# Altium footprint library SOT - SmallOutlineTransistor.PcbLib: 22 footprints (part 1 of 2)
Each footprint in its own frame and in the unit in brackets; x right, y up, seen from the top. Pads: shape width x height; smd on the part's side, far side on the other; paste and mask are expansions set on the pad; w line width, h text height; cw(c..) or ccw(c..) is an arc to the next point about the centre after c.
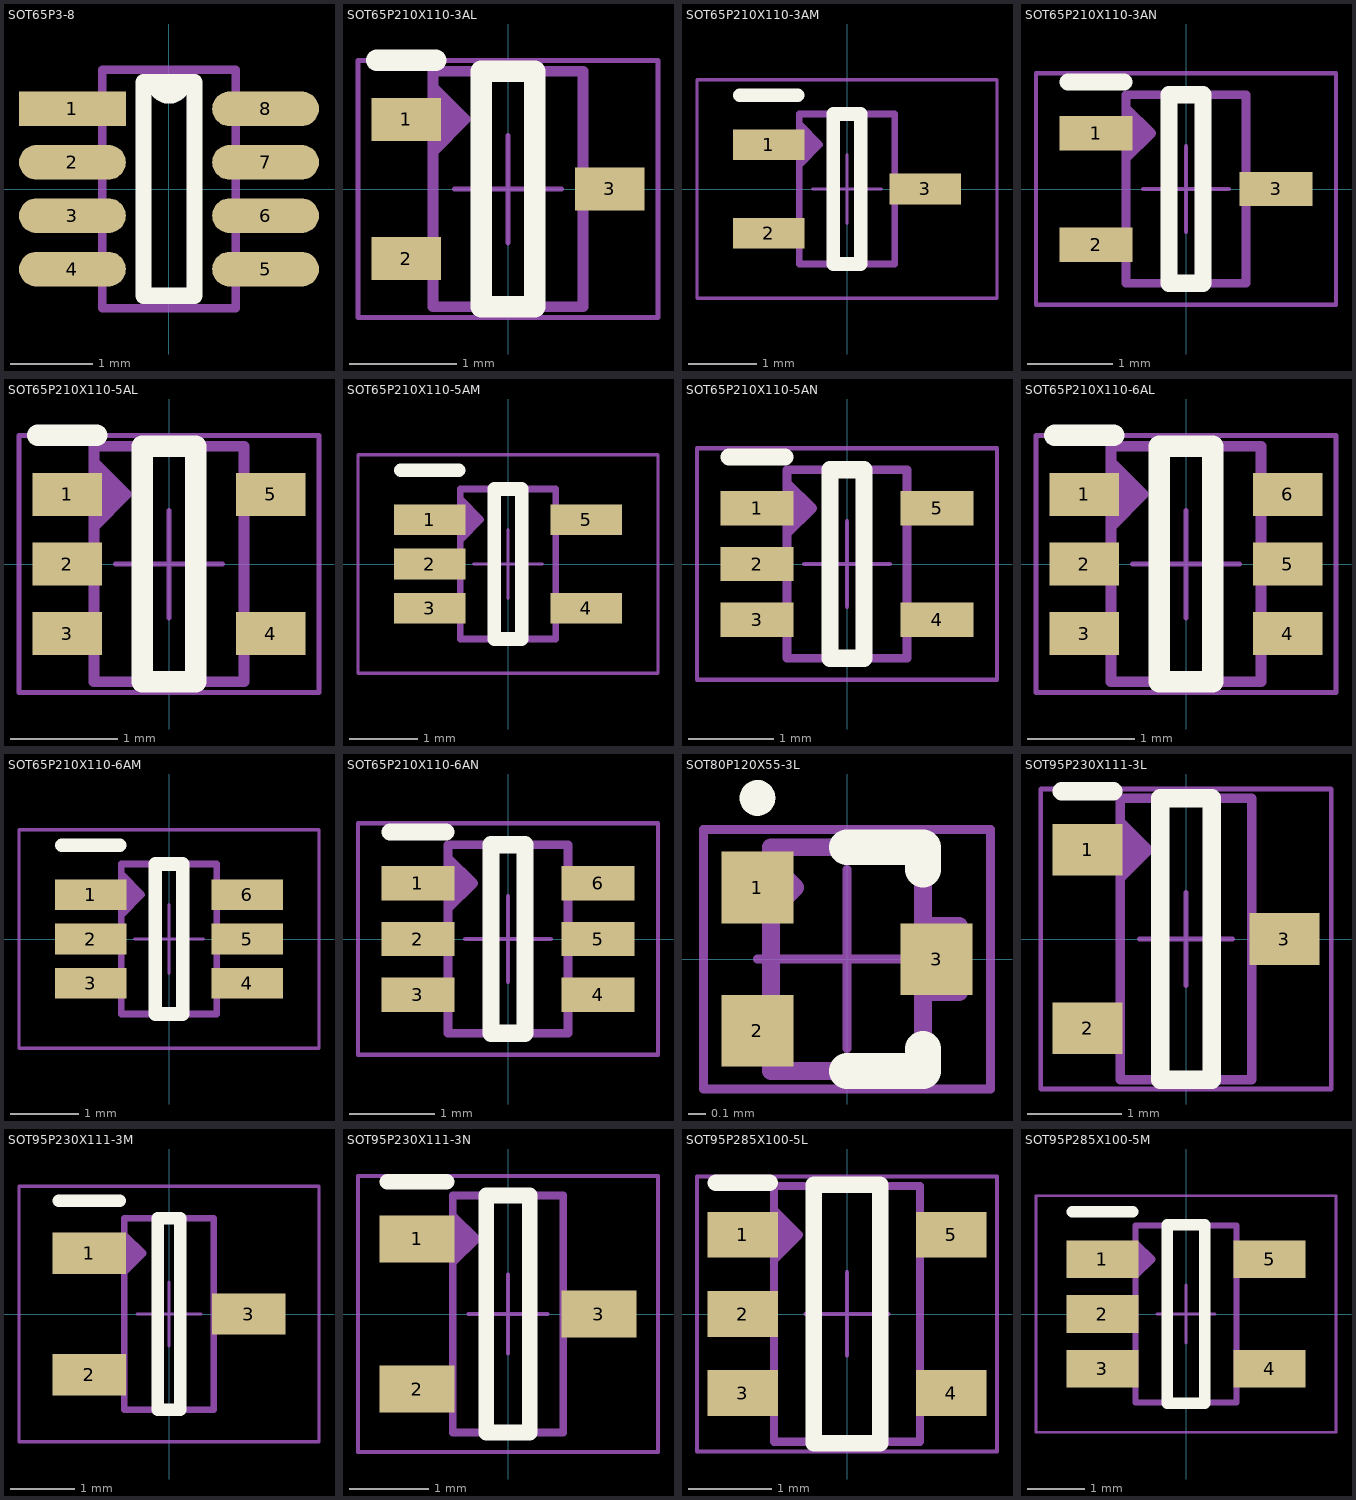
[diagram p0: the footprints below, top view; thin cyan lines are the x and y axes]

## SOT65P3-8 [mm] "SOT23-8"
pads (8):
  rect 1.3x0.42 smd: 1(-1.175,0.975)
  oval 1.3x0.42 smd: 2(-1.175,0.325) 3(-1.175,-0.325) 4(-1.175,-0.975) 5(1.175,-0.975) 6(1.175,-0.325) 7(1.175,0.325) 8(1.175,0.975)
Top Overlay:
  lines w0.2: -0.31,-1.3 0.31,-1.3 0.31,1.3 -0.162,1.3 ccw(c0,1.3) 0.162,1.3 -0.31,1.3 -0.31,-1.3
TopBody:
  lines w0.1: -0.813,-1.45 -0.813,1.45 0.813,1.45 0.813,-1.45 -0.813,-1.45
3D body: height 1.25, standoff 0, extent -0.813,-1.45 0.813,1.45

## SOT65P210X110-3AL [mm] "SOT353 or SC-70, 3-Leads, Body 2x1.3mm, Pitch 0.65mm, Lead Span 2.1mm, IPC High Density"
height 1.1
pads (3):
  rect 0.65x0.4 smd: 1(-0.95,0.65) 2(-0.95,-0.65) 3(0.95,0)
Top Overlay:
  lines w0.2: -1.225,1.2 -0.675,1.2 ; -0.25,-1.1 -0.25,1.1 0.25,1.1 0.25,-1.1 -0.25,-1.1
TopBody:
  lines w0.1: -0.7,0.35 -0.4,0.65 -0.7,0.95 ; -0.7,0.45 -0.5,0.65 -0.7,0.85 ; -0.7,0.55 -0.6,0.65 -0.7,0.75 ; -0.7,-1.1 0.7,-1.1 0.7,1.1 -0.7,1.1 -0.7,-1.1
TopCourtyard:
  lines w0.05: -0.5,0 0,0 ; 0,-0.5 0,0 ; 0,0.5 0,0 ; 0.5,0 0,0 ; -1.4,-1.2 1.4,-1.2 1.4,1.2 -1.4,1.2 -1.4,-1.2
3D body: height 1.1, standoff 0, extent -1.122,-1.1 1.123,1.1

## SOT65P210X110-3AM [mm] "SOT363 or SC-70, 3-Leads, Body 2x1.3mm, Pitch 0.65mm, Lead Span 2.1mm, IPC Low Density"
height 1.1
pads (3):
  rect 1.05x0.45 smd: 1(-1.15,0.65) 2(-1.15,-0.65) 3(1.15,0)
Top Overlay:
  lines w0.2: -1.575,1.375 -0.725,1.375 ; -0.2,-1.1 0.2,-1.1 0.2,1.1 -0.2,1.1 -0.2,-1.1
TopBody:
  lines w0.1: -0.7,0.35 -0.4,0.65 -0.7,0.95 ; -0.7,0.45 -0.5,0.65 -0.7,0.85 ; -0.7,0.55 -0.6,0.65 -0.7,0.75 ; -0.7,-1.1 0.7,-1.1 0.7,1.1 -0.7,1.1 -0.7,-1.1
TopCourtyard:
  lines w0.05: -0.5,0 0,0 ; 0,-0.5 0,0 ; 0,0.5 0,0 ; 0.5,0 0,0 ; -2.2,-1.6 2.2,-1.6 2.2,1.6 -2.2,1.6 -2.2,-1.6
3D body: height 1.1, standoff 0, extent -1.122,-1.1 1.123,1.1

## SOT65P210X110-3AN [mm] "SOT353 or SC-70, 3-Leads, Body 2x1.3mm, Pitch 0.65mm, Lead Span 2.1mm, IPC Medium Density"
height 1.1
pads (3):
  rect 0.85x0.4 smd: 1(-1.05,0.65) 2(-1.05,-0.65) 3(1.05,0)
Top Overlay:
  lines w0.2: -1.375,1.25 -0.725,1.25 ; -0.2,-1.1 0.2,-1.1 0.2,1.1 -0.2,1.1 -0.2,-1.1
TopBody:
  lines w0.1: -0.7,0.35 -0.4,0.65 -0.7,0.95 ; -0.7,0.45 -0.5,0.65 -0.7,0.85 ; -0.7,0.55 -0.6,0.65 -0.7,0.75 ; -0.7,-1.1 -0.7,1.1 0.7,1.1 0.7,-1.1 -0.7,-1.1
TopCourtyard:
  lines w0.05: -0.5,0 0,0 ; 0,-0.5 0,0 ; 0,0.5 0,0 ; 0.5,0 0,0 ; -1.75,-1.35 -1.75,1.35 1.75,1.35 1.75,-1.35 -1.75,-1.35
3D body: height 1.1, standoff 0, extent -1.122,-1.1 1.123,1.1

## SOT65P210X110-5AL [mm] "SOT353, 5-Leads, Body 2x1.3mm, Pitch 0.65mm, Lead Span 2.1mm, IPC High Density"
height 1.1
pads (5):
  rect 0.65x0.4 smd: 1(-0.95,0.65) 2(-0.95,0) 3(-0.95,-0.65) 4(0.95,-0.65) 5(0.95,0.65)
Top Overlay:
  lines w0.2: -1.225,1.2 -0.675,1.2 ; -0.25,-1.1 -0.25,1.1 0.25,1.1 0.25,-1.1 -0.25,-1.1
TopBody:
  lines w0.1: -0.7,0.35 -0.4,0.65 -0.7,0.95 ; -0.7,0.45 -0.5,0.65 -0.7,0.85 ; -0.7,0.55 -0.6,0.65 -0.7,0.75 ; -0.7,-1.1 0.7,-1.1 0.7,1.1 -0.7,1.1 -0.7,-1.1
TopCourtyard:
  lines w0.05: -0.5,0 0,0 ; 0,-0.5 0,0 ; 0,0.5 0,0 ; 0.5,0 0,0 ; -1.4,-1.2 1.4,-1.2 1.4,1.2 -1.4,1.2 -1.4,-1.2
3D body: height 1.1, standoff 0, extent -1.123,-1.1 1.122,1.1

## SOT65P210X110-5AM [mm] "SOT363, 5-Leads, Body 2x1.3mm, Pitch 0.65mm, Lead Span 2.1mm, IPC Low Density"
height 1.1
pads (5):
  rect 1.05x0.45 smd: 1(-1.15,0.65) 2(-1.15,0) 3(-1.15,-0.65) 4(1.15,-0.65) 5(1.15,0.65)
Top Overlay:
  lines w0.2: -1.575,1.375 -0.725,1.375 ; -0.2,-1.1 -0.2,1.1 0.2,1.1 0.2,-1.1 -0.2,-1.1
TopBody:
  lines w0.1: -0.7,0.35 -0.4,0.65 -0.7,0.95 ; -0.7,0.45 -0.5,0.65 -0.7,0.85 ; -0.7,0.55 -0.6,0.65 -0.7,0.75 ; -0.7,-1.1 -0.7,1.1 0.7,1.1 0.7,-1.1 -0.7,-1.1
TopCourtyard:
  lines w0.05: -0.5,0 0,0 ; 0,-0.5 0,0 ; 0,0.5 0,0 ; 0.5,0 0,0 ; -2.2,-1.6 -2.2,1.6 2.2,1.6 2.2,-1.6 -2.2,-1.6
3D body: height 1.1, standoff 0, extent -1.123,-1.1 1.123,1.1

## SOT65P210X110-5AN [mm] "SOT353, 5-Leads, Body 2x1.3mm, Pitch 0.65mm, Lead Span 2.1mm, IPC Medium Density"
height 1.1
pads (5):
  rect 0.85x0.4 smd: 1(-1.05,0.65) 2(-1.05,0) 3(-1.05,-0.65) 4(1.05,-0.65) 5(1.05,0.65)
Top Overlay:
  lines w0.2: -1.375,1.25 -0.725,1.25 ; -0.2,-1.1 -0.2,1.1 0.2,1.1 0.2,-1.1 -0.2,-1.1
TopBody:
  lines w0.1: -0.7,0.35 -0.4,0.65 -0.7,0.95 ; -0.7,0.45 -0.5,0.65 -0.7,0.85 ; -0.7,0.55 -0.6,0.65 -0.7,0.75 ; -0.7,-1.1 0.7,-1.1 0.7,1.1 -0.7,1.1 -0.7,-1.1
TopCourtyard:
  lines w0.05: -0.5,0 0,0 ; 0,-0.5 0,0 ; 0,0.5 0,0 ; 0.5,0 0,0 ; -1.75,-1.35 1.75,-1.35 1.75,1.35 -1.75,1.35 -1.75,-1.35
3D body: height 1.1, standoff 0, extent -1.123,-1.1 1.123,1.1

## SOT65P210X110-6AL [mm] "SOT363, 6-Leads, Body 2x1.3mm, Pitch 0.65mm, Lead Span 2.1mm, IPC High Density"
height 1.1
pads (6):
  rect 0.65x0.4 smd: 1(-0.95,0.65) 2(-0.95,0) 3(-0.95,-0.65) 4(0.95,-0.65) 5(0.95,0) 6(0.95,0.65)
Top Overlay:
  lines w0.2: -1.225,1.2 -0.675,1.2 ; -0.25,-1.1 0.25,-1.1 0.25,1.1 -0.25,1.1 -0.25,-1.1
TopBody:
  lines w0.1: -0.7,0.35 -0.4,0.65 -0.7,0.95 ; -0.7,0.45 -0.5,0.65 -0.7,0.85 ; -0.7,0.55 -0.6,0.65 -0.7,0.75 ; -0.7,-1.1 -0.7,1.1 0.7,1.1 0.7,-1.1 -0.7,-1.1
TopCourtyard:
  lines w0.05: -0.5,0 0,0 ; 0,-0.5 0,0 ; 0,0.5 0,0 ; 0.5,0 0,0 ; -1.4,-1.2 -1.4,1.2 1.4,1.2 1.4,-1.2 -1.4,-1.2
3D body: height 1.1, standoff 0, extent -1.123,-1.1 1.122,1.1

## SOT65P210X110-6AM [mm] "SOT363, 6-Leads, Body 2x1.3mm, Pitch 0.65mm, Lead Span 2.1mm, IPC Low Density"
height 1.1
pads (6):
  rect 1.05x0.45 smd: 1(-1.15,0.65) 2(-1.15,0) 3(-1.15,-0.65) 4(1.15,-0.65) 5(1.15,0) 6(1.15,0.65)
Top Overlay:
  lines w0.2: -1.575,1.375 -0.725,1.375 ; -0.2,-1.1 0.2,-1.1 0.2,1.1 -0.2,1.1 -0.2,-1.1
TopBody:
  lines w0.1: -0.7,0.35 -0.4,0.65 -0.7,0.95 ; -0.7,0.45 -0.5,0.65 -0.7,0.85 ; -0.7,0.55 -0.6,0.65 -0.7,0.75 ; -0.7,-1.1 -0.7,1.1 0.7,1.1 0.7,-1.1 -0.7,-1.1
TopCourtyard:
  lines w0.05: -0.5,0 0,0 ; 0,-0.5 0,0 ; 0,0.5 0,0 ; 0.5,0 0,0 ; -2.2,-1.6 2.2,-1.6 2.2,1.6 -2.2,1.6 -2.2,-1.6
3D body: height 1.1, standoff 0, extent -1.123,-1.1 1.122,1.1

## SOT65P210X110-6AN [mm] "SOT363, 6-Leads, Body 2x1.3mm, Pitch 0.65mm, Lead Span 2.1mm, IPC Medium Density"
height 1
pads (6):
  rect 0.85x0.4 smd: 1(-1.05,0.65) 2(-1.05,0) 3(-1.05,-0.65) 4(1.05,-0.65) 5(1.05,0) 6(1.05,0.65)
Top Overlay:
  lines w0.2: -1.375,1.25 -0.725,1.25 ; -0.2,-1.1 -0.2,1.1 0.2,1.1 0.2,-1.1 -0.2,-1.1
TopBody:
  lines w0.1: -0.7,0.35 -0.4,0.65 -0.7,0.95 ; -0.7,0.45 -0.5,0.65 -0.7,0.85 ; -0.7,0.55 -0.6,0.65 -0.7,0.75 ; -0.7,-1.1 -0.7,1.1 0.7,1.1 0.7,-1.1 -0.7,-1.1
TopCourtyard:
  lines w0.05: -0.5,0 0,0 ; 0,-0.5 0,0 ; 0,0.5 0,0 ; 0.5,0 0,0 ; -1.75,-1.35 -1.75,1.35 1.75,1.35 1.75,-1.35 -1.75,-1.35
3D body: height 1.1, standoff 0, extent -1.123,-1.1 1.122,1.1

## SOT80P120X55-3L [mm] "SOT723, 3-Leads, Body 1.3x1.3mm (max), Pitch 0.80mm, IPC High Density, SOT-723"
height 0.55
pads (3):
  rect 0.4x0.4 smd mask+0.05: 1(-0.5,0.4) 2(-0.5,-0.4) 3(0.5,0)
Top Overlay:
  circle w0.1: c-0.5,0.9 r0.05
  lines w0.2: 0,-0.625 0.425,-0.625 0.425,-0.5 ; 0,0.625 0.425,0.625 0.425,0.5
TopBody:
  lines w0.1: -0.425,-0.535 -0.625,-0.535 -0.625,-0.265 -0.425,-0.265 ; -0.425,0.4 -0.29,0.4 ; 0.425,-0.185 0.625,-0.185 0.625,0.185 0.425,0.185 ; -0.29,0.4 -0.425,0.265 -0.625,0.265 -0.625,0.535 -0.425,0.535 -0.29,0.4 ; -0.425,-0.625 0.425,-0.625 0.425,0.625 -0.425,0.625 -0.425,-0.625
TopCourtyard:
  lines w0.05: -0.5,0 0.5,0 ; 0,-0.5 0,0.5 ; -0.8,-0.725 0.8,-0.725 0.8,0.725 -0.8,0.725 -0.8,-0.725
3D body: height 0.17, standoff 0, extent -0.625,-0.535 -0.425,-0.265
3D body: height 0.17, standoff 0, extent -0.625,0.265 -0.425,0.535
3D body: height 0.17, standoff 0, extent 0.425,-0.185 0.625,0.185
3D body: height 0.55, standoff 0, extent -0.425,-0.625 0.425,0.625

## SOT95P230X111-3L [mm] "SOT23, 3-Leads, Body 3.0x2.5mm (max), Pitch 0.95mm, IPC High Density"
height 1.11
pads (3):
  rect 0.75x0.55 smd: 1(-1.05,0.95) 2(-1.05,-0.95) 3(1.05,0)
Top Overlay:
  lines w0.2: -1.325,1.575 -0.775,1.575 ; -0.275,-1.5 -0.275,1.5 0.275,1.5 0.275,-1.5 -0.275,-1.5
TopBody:
  lines w0.1: -0.7,0.65 -0.4,0.95 -0.7,1.25 ; -0.7,0.75 -0.5,0.95 -0.7,1.15 ; -0.7,0.85 -0.6,0.95 -0.7,1.05 ; -0.7,-1.5 0.7,-1.5 0.7,1.5 -0.7,1.5 -0.7,-1.5
TopCourtyard:
  lines w0.05: -0.5,0 0.5,0 ; 0,-0.5 0,0.5 ; -1.55,-1.6 -1.55,1.6 1.55,1.6 1.55,-1.6 -1.55,-1.6
3D body: height 1.2, standoff 0, extent -1.25,-1.6 1.25,1.6

## SOT95P230X111-3M [mm] "SOT23, 3-Leads, Body 3.0x2.5mm (max), Pitch 0.95mm, IPC Low Density"
height 1.11
pads (3):
  rect 1.15x0.65 smd: 1(-1.25,0.95) 2(-1.25,-0.95) 3(1.25,0)
Top Overlay:
  lines w0.2: -1.725,1.775 -0.775,1.775 ; -0.175,-1.5 0.175,-1.5 0.175,1.5 -0.175,1.5 -0.175,-1.5
TopBody:
  lines w0.1: -0.7,0.65 -0.4,0.95 -0.7,1.25 ; -0.7,0.75 -0.5,0.95 -0.7,1.15 ; -0.7,0.85 -0.6,0.95 -0.7,1.05 ; -0.7,-1.5 -0.7,1.5 0.7,1.5 0.7,-1.5 -0.7,-1.5
TopCourtyard:
  lines w0.05: -0.5,0 0.5,0 ; 0,-0.5 0,0.5 ; -2.35,-2 2.35,-2 2.35,2 -2.35,2 -2.35,-2
3D body: height 1.2, standoff 0, extent -1.25,-1.6 1.25,1.6

## SOT95P230X111-3N [mm] "SOT23, 3-Leads, Body 3.0x2.5mm (max), Pitch 0.95mm, IPC Medium Density"
height 1.11
pads (3):
  rect 0.95x0.6 smd: 1(-1.15,0.95) 2(-1.15,-0.95) 3(1.15,0)
Top Overlay:
  lines w0.2: -1.525,1.675 -0.775,1.675 ; -0.275,-1.5 0.275,-1.5 0.275,1.5 -0.275,1.5 -0.275,-1.5
TopBody:
  lines w0.1: -0.7,0.65 -0.4,0.95 -0.7,1.25 ; -0.7,0.75 -0.5,0.95 -0.7,1.15 ; -0.7,0.85 -0.6,0.95 -0.7,1.05 ; -0.7,-1.5 -0.7,1.5 0.7,1.5 0.7,-1.5 -0.7,-1.5
TopCourtyard:
  lines w0.05: -0.5,0 0.5,0 ; 0,-0.5 0,0.5 ; -1.9,-1.75 -1.9,1.75 1.9,1.75 1.9,-1.75 -1.9,-1.75
3D body: height 1.2, standoff 0, extent -1.25,-1.6 1.25,1.6

## SOT95P285X100-5L [mm] "SOT23, 5-Leads, Body 3.1x3.0mm (max), Pitch 0.95mm, IPC High Density"
height 1
pads (5):
  rect 0.85x0.55 smd: 1(-1.25,0.95) 2(-1.25,0) 3(-1.25,-0.95) 4(1.25,-0.95) 5(1.25,0.95)
Top Overlay:
  lines w0.2: -1.575,1.575 -0.925,1.575 ; -0.4,-1.55 -0.4,1.55 0.4,1.55 0.4,-1.55 -0.4,-1.55
TopBody:
  lines w0.1: -0.875,0.65 -0.575,0.95 -0.875,1.25 ; -0.875,0.75 -0.675,0.95 -0.875,1.15 ; -0.875,0.85 -0.775,0.95 -0.875,1.05 ; -0.875,-1.535 0.875,-1.535 0.875,1.535 -0.875,1.535 -0.875,-1.535
  text ".Designator" at 0.175,-0.85 h0.5
TopCourtyard:
  lines w0.05: -0.5,0 0.5,0 ; 0,-0.5 0,0.5 ; -1.8,-1.65 1.8,-1.65 1.8,1.65 -1.8,1.65 -1.8,-1.65
3D body: height 1, standoff 0, extent -0.875,-1.535 0.875,1.535

## SOT95P285X100-5M [mm] "SOT23, 5-Leads, Body 3.1x3.0mm (max), Pitch 0.95mm, IPC Low Density"
height 1
pads (5):
  rect 1.25x0.65 smd: 1(-1.45,0.95) 2(-1.45,0) 3(-1.45,-0.95) 4(1.45,-0.95) 5(1.45,0.95)
Top Overlay:
  lines w0.2: -1.975,1.775 -0.925,1.775 ; -0.325,-1.55 0.325,-1.55 0.325,1.55 -0.325,1.55 -0.325,-1.55
TopBody:
  lines w0.1: -0.875,0.65 -0.575,0.95 -0.875,1.25 ; -0.875,0.75 -0.675,0.95 -0.875,1.15 ; -0.875,0.85 -0.775,0.95 -0.875,1.05 ; -0.875,-1.535 -0.875,1.535 0.875,1.535 0.875,-1.535 -0.875,-1.535
  text ".Designator" at 0.175,-0.85 h0.5
TopCourtyard:
  lines w0.05: -0.5,0 0.5,0 ; 0,-0.5 0,0.5 ; -2.6,-2.05 -2.6,2.05 2.6,2.05 2.6,-2.05 -2.6,-2.05
3D body: height 1, standoff 0, extent -0.875,-1.535 0.875,1.535